# Altium schematic symbol library 53398-0671.SchLib: 1 symbol
Pins are listed as number, name and electrical type; pins without a type are passive.

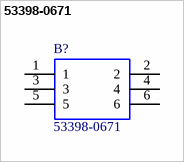
[diagram p0: symbol 53398-0671]

## 53398-0671
designator B?
Molex PICOBLADE Series, Series Number 53398, 1.25mm Pitch 6 Way 1 Row Straight PCB Header, Solder Termination, 1A; Allied_Number: 70090674; Geometry.Height: mm; Supplier_Name: RS; RS Part Number: 5427214P; Manufacturer_Name: Molex; Manufacturer_Part_Number: 53398-0671; Other Part Number: *; Datasheet Link: http://docs-europe.electrocomponents.com/webdocs/13c4/0900766b813c4502.pdf; 3D Package: *
footprint 533980671
pins: 1, 2, 3, 4, 5, 6